# Altium footprint library PTS645.PcbLib: 1 footprints
Each footprint in its own frame and in the unit in brackets; x right, y up, seen from the top. Pads: shape width x height; smd on the part's side, far side on the other; paste and mask are expansions set on the pad; w line width, h text height; cw(c..) or ccw(c..) is an arc to the next point about the centre after c.
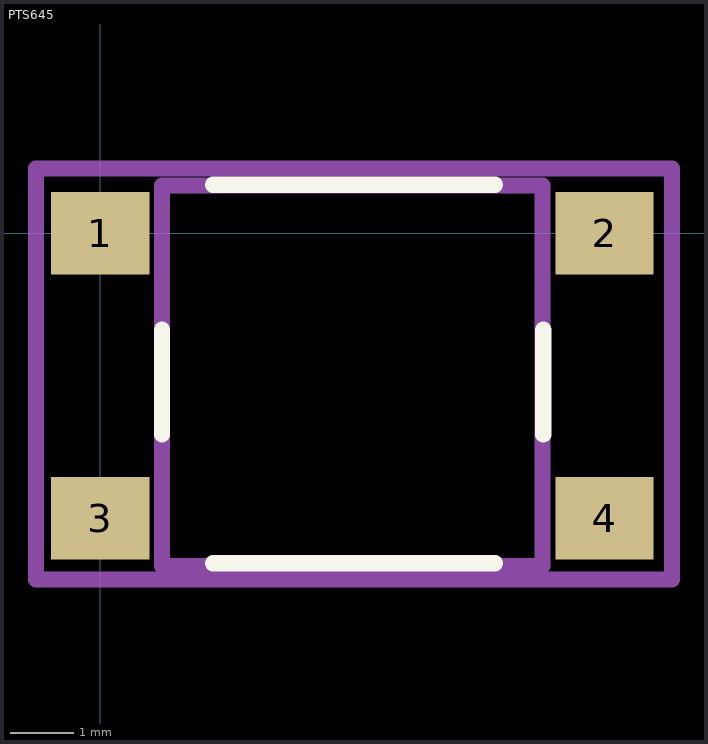
[diagram p0: the footprint, top view; thin cyan lines are the x and y axes]

## PTS645 [mm]
pads (4):
  rect 1.55x1.3 smd: 1(0,0) 2(7.95,0) 3(0,-4.5) 4(7.95,-4.5)
Top Overlay:
  lines w0.254: 0.975,-3.175 0.975,-1.524 ; 1.778,-5.207 6.223,-5.207 ; 1.778,0.762 6.223,0.762 ; 6.985,-3.175 6.985,-1.524
Mechanical 1:
  lines w0.254: 0.975,-5.25 0.975,0.75 6.975,0.75 6.975,-5.25 0.975,-5.25
  text ".Designator" at 1.27,-2.794 h1.52
Mechanical 15:
  lines w0.254: -1.016,-5.461 -1.016,1.016 9.017,1.016 9.017,-5.461 -1.016,-5.461
3D body: height 3.45, standoff 0, extent 0.975,-5.25 6.975,0.75
3D body: height 4.3, standoff 0, extent 2.187,-4.036 5.687,-0.536